# EAGLE library part U262-161N-4BVC11 (library Deegou_Connector)
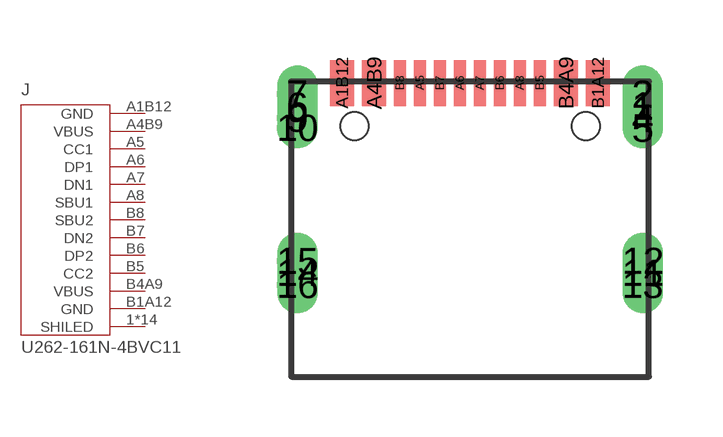
[diagram p28: symbol with the pads of U262-161N-4BVC11; footprint U262-161N-4BVC11]

Designator prefix J

## U262-161N-4BVC11  [U262-161N-4BVC11]
1  SHILED
2  SHILED
4  SHILED
5  SHILED
6  SHILED
7  SHILED
9  SHILED
10  SHILED
11  SHILED
12  SHILED
13  SHILED
14  SHILED
15  SHILED
16  SHILED
A1B12  GND
A4B9  VBUS
A5  CC1
A6  DP1
A7  DN1
A8  SBU1
B1A12  GND
B4A9  VBUS
B5  CC2
B6  DP2
B7  DN2
B8  SBU2

## Footprint U262-161N-4BVC11 (pad centres in mm)
drill 0.5 pad 1 long: 1 4.32,-0.575; 6 -4.32,-0.575; 11 4.32,-4.755; 14 -4.32,-4.755
drill 0.5 pad 0.61: 2 4.32,-0.275; 4 4.32,-0.875; 5 4.32,-1.125; 7 -4.32,-0.275; 9 -4.32,-0.875; 10 -4.32,-1.125; 12 4.32,-4.455; 13 4.32,-5.055; 15 -4.32,-4.455; 16 -4.32,-5.055
smd 0.6 x 1.15: A1B12 -3.2,0; A4B9 -2.4,0; B1A12 3.2,0; B4A9 2.4,0
smd 0.3 x 1.15: A5 -1.25,0; A6 -0.25,0; A7 0.25,0; A8 1.25,0; B5 1.75,0; B6 0.75,0; B7 -0.75,0; B8 -1.75,0
hole 0.7 at -2.89,-1.075
hole 0.7 at 2.89,-1.075